# Altium footprint library Pololu Step Down Voltage Regulator.PcbLib: 1 footprints
Each footprint in its own frame and in the unit in brackets; x right, y up, seen from the top. Pads: shape width x height; smd on the part's side, far side on the other; paste and mask are expansions set on the pad; w line width, h text height; cw(c..) or ccw(c..) is an arc to the next point about the centre after c.
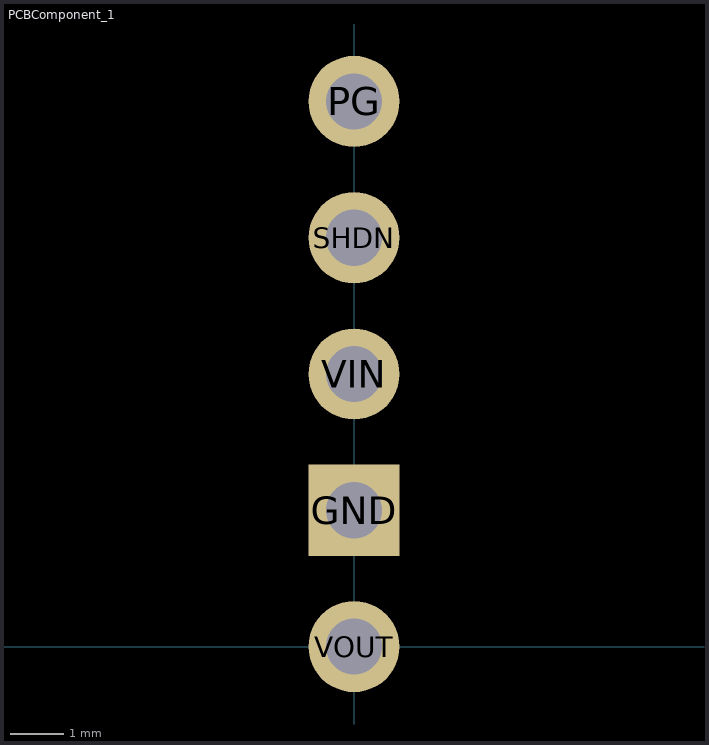
[diagram p0: the footprint, top view; thin cyan lines are the x and y axes]

## PCBComponent_1 [mm]
pads (5):
  rect 1.7x1.7 hole 1.05: GND(0,2.54)
  round 1.7 hole 1.05: PG(0,10.16) SHDN(0,7.62) VIN(0,5.08) VOUT(0,0)